# Altium footprint library ZX62M-B-5P(30).PcbLib: 1 footprints
Each footprint in its own frame and in the unit in brackets; x right, y up, seen from the top. Pads: shape width x height; smd on the part's side, far side on the other; paste and mask are expansions set on the pad; w line width, h text height; cw(c..) or ccw(c..) is an arc to the next point about the centre after c.
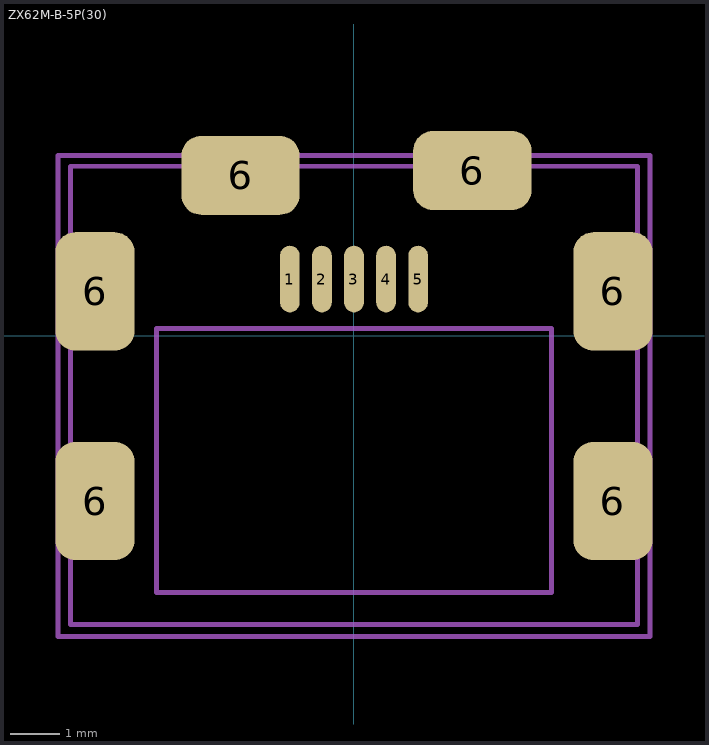
[diagram p0: the footprint, top view; thin cyan lines are the x and y axes]

## ZX62M-B-5P(30) [mm]
pads (11):
  oval 0.4x1.35 smd: 1(-1.3,1.15) 2(-0.65,1.15) 3(0,1.15) 4(0.65,1.15) 5(1.3,1.15)
  rrect50% 1.6x2.4 smd: 6(-5.25,-3.35) 6(-5.25,0.9) 6(5.25,-3.35) 6(5.25,0.9)
  rrect50% 2.4x1.6 smd: 6(-2.3,3.25) 6(2.4,3.35)
Top Assembly:
  lines w0.1: -5.75,-5.85 5.75,-5.85 5.75,3.436 -5.75,3.436 -5.75,-5.85
Top Courtyard:
  lines w0.1: -6,-6.1 6,-6.1 6,3.65 -6,3.65 -6,-6.1
Board Outline:
  lines w0.1: -4,-5.2 -4,0.15 4,0.15 4,-5.2 -4,-5.2
3D body "ZX62M-B-5P.stp": height 1.54, standoff -1.54, extent -5.75,-5.859 5.75,3.436